# Altium footprint library tmp.PcbLib: 3 footprints
Each footprint in its own frame and in the unit in brackets; x right, y up, seen from the top. Pads: shape width x height; smd on the part's side, far side on the other; paste and mask are expansions set on the pad; w line width, h text height; cw(c..) or ccw(c..) is an arc to the next point about the centre after c.
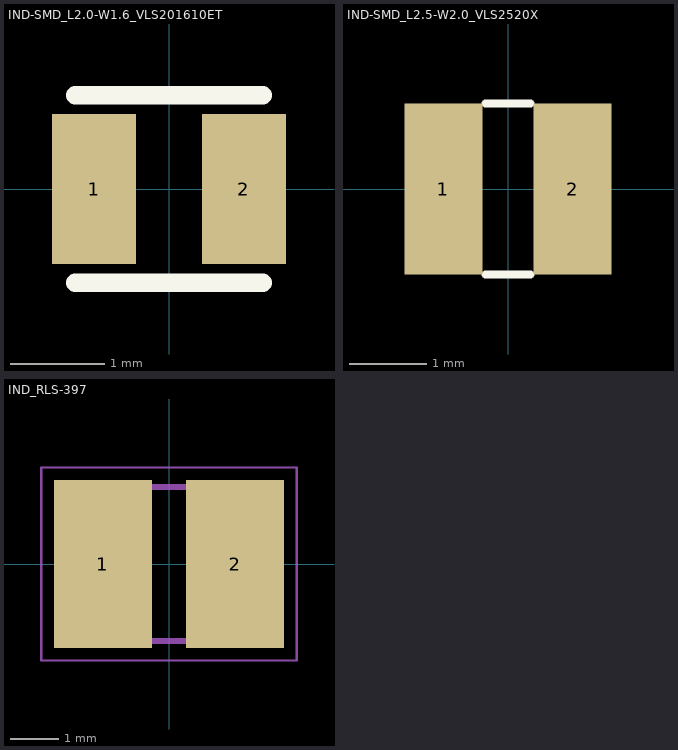
[diagram p0: the footprints below, top view; thin cyan lines are the x and y axes]

## IND-SMD_L2.0-W1.6_VLS201610ET [mm]
pads (2):
  rect 0.9x1.6 smd: 1(-0.8,0) 2(0.8,0)
Top Overlay:
  lines w0.2: -1,-1 1,-1 ; -1,1 1,1
3D body "User Library-TDK__VLS201610CX_series__Body2_0x1_6x1_0mm.STEP": height 1, standoff 0, extent -1,-0.8 1,0.8

## IND-SMD_L2.5-W2.0_VLS2520X [mm]
pads (2):
  rect 1x2.2 smd: 1(-0.83,0) 2(0.83,0)
Top Overlay:
  lines w0.102: -0.287,-1.1 0.287,-1.1 ; -0.287,1.1 0.287,1.1
3D body "User Library-TDK__VLS201610CX_series__Body2_0x1_6x1_0mm.STEP": height 1, standoff 0, extent -1,-0.8 1,0.8

## IND_RLS-397 [mm]
pads (2):
  rect 2.05x3.5 smd: 1(-1.375,0) 2(1.375,0)
Mechanical 13:
  lines w0.127: -2.25,-1.6 2.25,-1.6 2.25,1.6 -2.25,1.6 -2.25,-1.6
Mechanical 15:
  lines w0.05: -2.66,-2.01 2.66,-2.01 2.66,2.01 -2.66,2.01 -2.66,-2.01
3D body "step_temp.STEP": height 2.5, standoff -0.1, extent -2.25,-1.6 2.25,1.6